# Altium footprint library XCF16PVOG48C.PcbLib: 2 footprints
Each footprint in its own frame and in the unit in brackets; x right, y up, seen from the top. Pads: shape width x height; smd on the part's side, far side on the other; paste and mask are expansions set on the pad; w line width, h text height; cw(c..) or ccw(c..) is an arc to the next point about the centre after c.
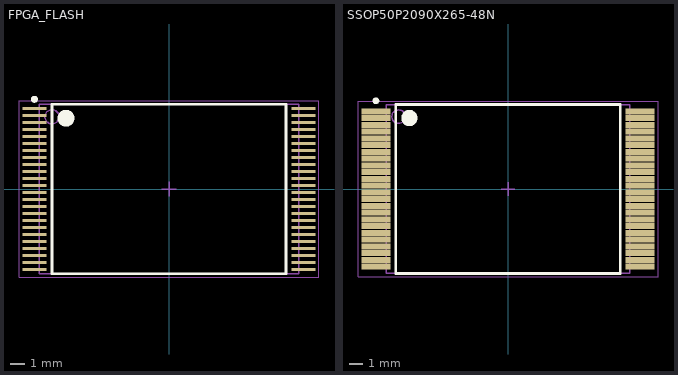
[diagram p0: the footprints below, top view; thin cyan lines are the x and y axes]

## FPGA_FLASH [mm] "TSSOP, 48-Leads, Body 12,00x18,45mm, Pitch 0,50mm, IPC Medium Density"
height 0.95
pads (48):
  rect 1.7x0.2 smd: 1(-9.6,5.75) 2(-9.6,5.25) 3(-9.6,4.75) 4(-9.6,4.25) 5(-9.6,3.75) 6(-9.6,3.25) 7(-9.6,2.75) 8(-9.6,2.25) 9(-9.6,1.75) 10(-9.6,1.25) 11(-9.6,0.75) 12(-9.6,0.25) 13(-9.6,-0.25) 14(-9.6,-0.75) 15(-9.6,-1.25) 16(-9.6,-1.75) 17(-9.6,-2.25) 18(-9.6,-2.75) 19(-9.6,-3.25) 20(-9.6,-3.75) 21(-9.6,-4.25) 22(-9.6,-4.75) 23(-9.6,-5.25) 24(-9.6,-5.75) 25(9.6,-5.75) 26(9.6,-5.25) 27(9.6,-4.75) 28(9.6,-4.25) 29(9.6,-3.75) 30(9.6,-3.25) 31(9.6,-2.75) 32(9.6,-2.25) 33(9.6,-1.75) 34(9.6,-1.25) 35(9.6,-0.75) 36(9.6,-0.25) 37(9.6,0.25) 38(9.6,0.75) 39(9.6,1.25) 40(9.6,1.75) 41(9.6,2.25) 42(9.6,2.75) 43(9.6,3.25) 44(9.6,3.75) 45(9.6,4.25) 46(9.6,4.75) 47(9.6,5.25) 48(9.6,5.75)
Top Overlay:
  circle w0.6: c-7.35,5.05 r0.3
  circle w0.25: c-9.6,6.4 r0.125
  lines w0.2: -8.35,-6.05 8.35,-6.05 8.35,6.05 -8.35,6.05 -8.35,-6.05
Mechanical 13:
  circle w0.1: c-8.35,5.15 r0.5
  lines w0.1: -9.25,-6.05 9.25,-6.05 9.25,6.05 -9.25,6.05 -9.25,-6.05
Mechanical 15:
  lines w0.05: -10.7,-6.3 10.7,-6.3 10.7,6.3 -10.7,6.3 -10.7,-6.3
  lines w0.1: -0.5,0 0.5,0 ; 0,-0.5 0,0.5
3D body: height 0.95, standoff 1.05, extent -9.25,-6.05 9.25,6.05

## SSOP50P2090X265-48N [mm] "SSOP, 48-Leads, Body 12,25x17,90mm, Pitch 0,50mm, IPC Medium Density"
height 2.65
pads (48):
  rect 2.15x0.45 smd: 1(-9.775,5.75) 2(-9.775,5.25) 3(-9.775,4.75) 4(-9.775,4.25) 5(-9.775,3.75) 6(-9.775,3.25) 7(-9.775,2.75) 8(-9.775,2.25) 9(-9.775,1.75) 10(-9.775,1.25) 11(-9.775,0.75) 12(-9.775,0.25) 13(-9.775,-0.25) 14(-9.775,-0.75) 15(-9.775,-1.25) 16(-9.775,-1.75) 17(-9.775,-2.25) 18(-9.775,-2.75) 19(-9.775,-3.25) 20(-9.775,-3.75) 21(-9.775,-4.25) 22(-9.775,-4.75) 23(-9.775,-5.25) 24(-9.775,-5.75) 25(9.775,-5.75) 26(9.775,-5.25) 27(9.775,-4.75) 28(9.775,-4.25) 29(9.775,-3.75) 30(9.775,-3.25) 31(9.775,-2.75) 32(9.775,-2.25) 33(9.775,-1.75) 34(9.775,-1.25) 35(9.775,-0.75) 36(9.775,-0.25) 37(9.775,0.25) 38(9.775,0.75) 39(9.775,1.25) 40(9.775,1.75) 41(9.775,2.25) 42(9.775,2.75) 43(9.775,3.25) 44(9.775,3.75) 45(9.775,4.25) 46(9.775,4.75) 47(9.775,5.25) 48(9.775,5.75)
Top Overlay:
  circle w0.25: c-9.775,6.525 r0.125
  circle w0.6: c-7.3,5.25 r0.3
  lines w0.2: -8.3,-6.25 -8.3,6.25 8.3,6.25 8.3,-6.25 -8.3,-6.25
Mechanical 13:
  circle w0.1: c-8.1,5.35 r0.5
  lines w0.1: -9,-6.25 -9,6.25 9,6.25 9,-6.25 -9,-6.25
Mechanical 15:
  lines w0.05: -11.1,-6.5 -11.1,6.5 11.1,6.5 11.1,-6.5 -11.1,-6.5
  lines w0.1: -0.5,0 0.5,0 ; 0,-0.5 0,0.5
3D body: height 2.65, standoff 0.1, extent -9,-6.25 9,6.25